# Altium footprint library Project_Oshinoko.PcbLib: 202 footprints (part 4 of 13)
Each footprint in its own frame and in the unit in brackets; x right, y up, seen from the top. Pads: shape width x height; smd on the part's side, far side on the other; paste and mask are expansions set on the pad; w line width, h text height; cw(c..) or ccw(c..) is an arc to the next point about the centre after c.
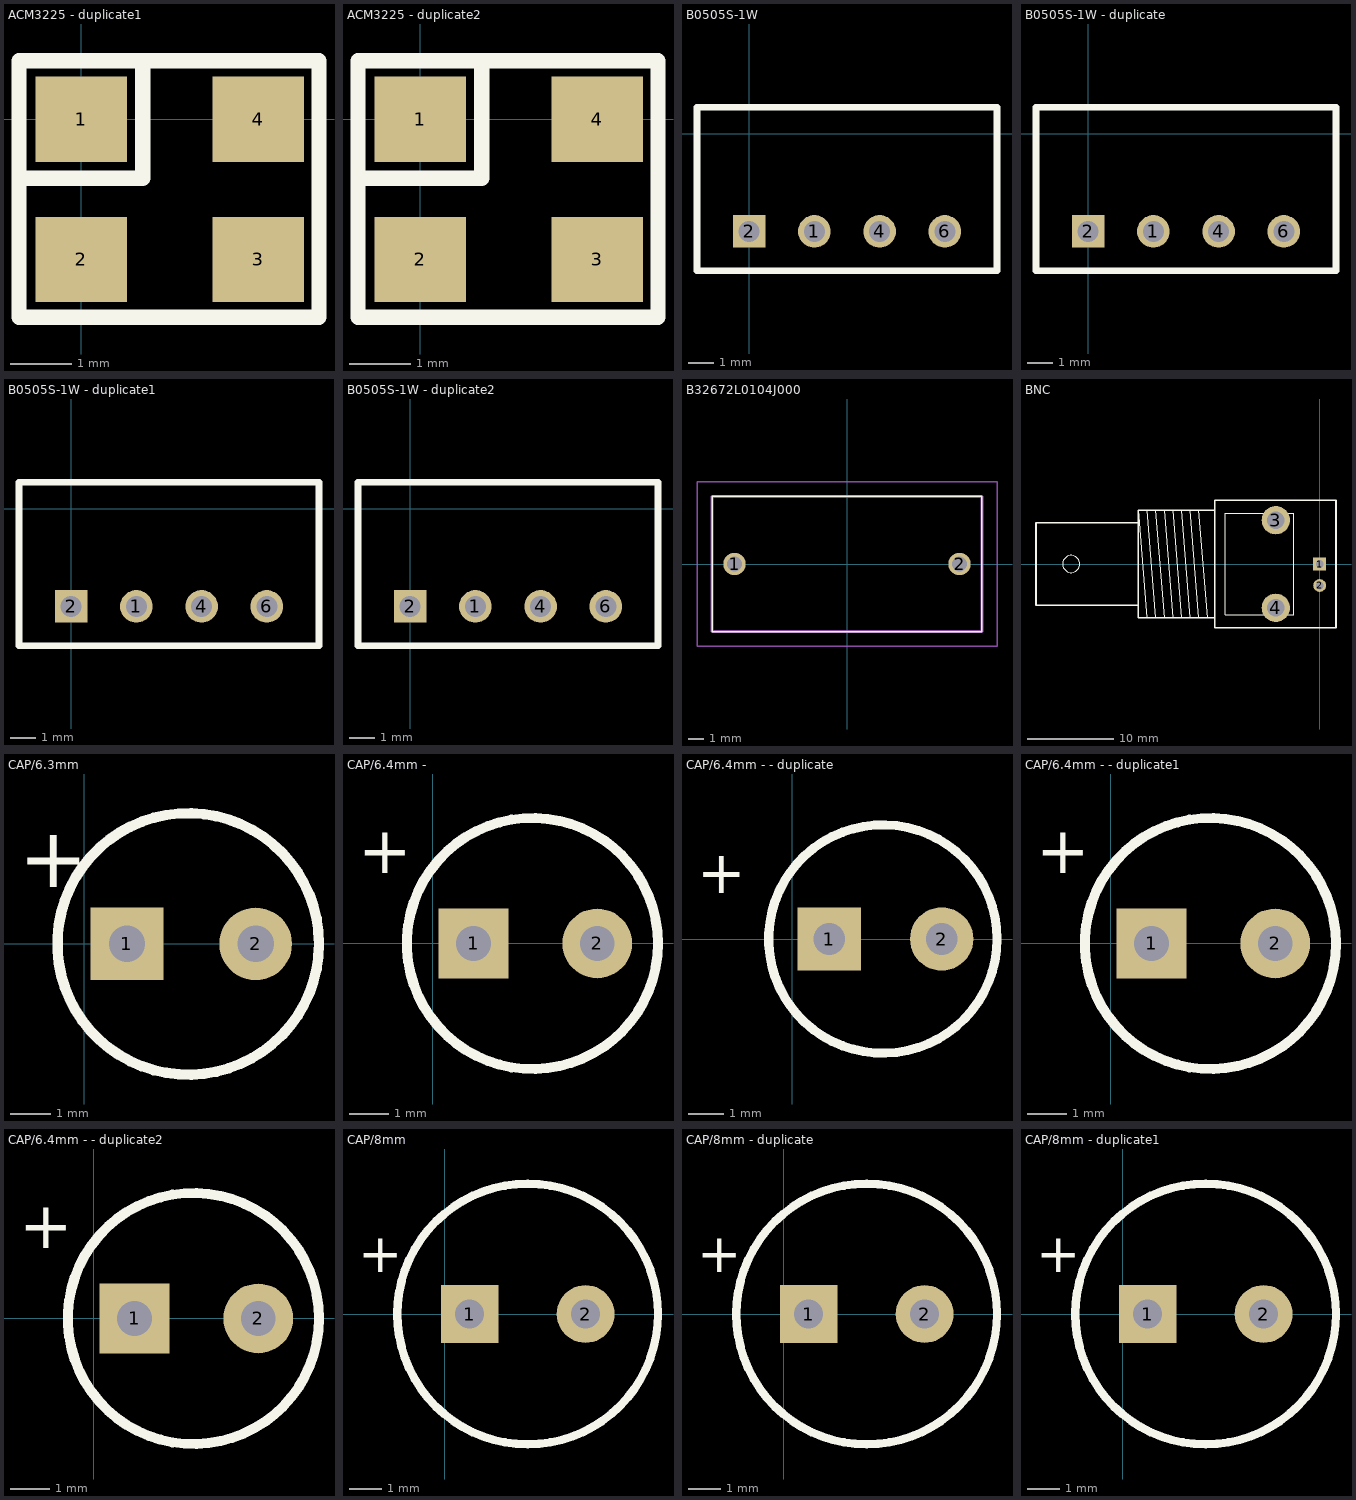
[diagram p3: the footprints below, top view; thin cyan lines are the x and y axes]

## ACM3225 - duplicate1 [mm]
pads (4):
  rect 1.5x1.4 smd: 1(0,0) 2(0,-2.3) 3(2.9,-2.3) 4(2.9,0)
Top Overlay:
  lines w0.254: -1.02,-0.969 1.012,-0.969 1.012,0.961 ; -1.02,-3.25 3.9,-3.25 3.9,0.961 -1.02,0.961 -1.02,-3.25

## ACM3225 - duplicate2 [mm]
pads (4):
  rect 1.5x1.4 smd: 1(0,0) 2(0,-2.3) 3(2.9,-2.3) 4(2.9,0)
Top Overlay:
  lines w0.254: -1.02,-0.969 1.012,-0.969 1.012,0.961 ; -1.02,-3.25 3.9,-3.25 3.9,0.961 -1.02,0.961 -1.02,-3.25

## B0505S-1W [mil]
pads (4):
  round 50 hole 32: 1(100,-150) 4(200,-150) 6(300,-150)
  rect 50x50 hole 32: 2(0,-150)
Top Overlay:
  lines w10: -80,-210 380,-210 380,40 -80,40 -80,-210

## B0505S-1W - duplicate [mil]
pads (4):
  round 50 hole 32: 1(100,-150) 4(200,-150) 6(300,-150)
  rect 50x50 hole 32: 2(0,-150)
Top Overlay:
  lines w10: -80,-210 -80,40 380,40 380,-210 -80,-210

## B0505S-1W - duplicate1 [mil]
pads (4):
  round 50 hole 32: 1(100,-150) 4(200,-150) 6(300,-150)
  rect 50x50 hole 32: 2(0,-150)
Top Overlay:
  lines w10: -80,-210 380,-210 380,40 -80,40 -80,-210

## B0505S-1W - duplicate2 [mil]
pads (4):
  round 50 hole 32: 1(100,-150) 4(200,-150) 6(300,-150)
  rect 50x50 hole 32: 2(0,-150)
Top Overlay:
  lines w10: -80,-210 380,-210 380,40 -80,40 -80,-210

## B32672L0104J000 [mm]
pads (2):
  round 1.5 hole 1: 1(-7.5,0) 2(7.5,0)
Top Overlay:
  lines w0.1: -9,-4.5 -9,4.5 9,4.5 9,-4.5 -9,-4.5
Mechanical 13:
  lines w0.2: -9,-4.5 -9,4.5 9,4.5 9,-4.5 -9,-4.5
Mechanical 15:
  lines w0.1: -10,-5.5 -10,5.5 10,5.5 10,-5.5 -10,-5.5

## BNC [mm]
pads (4):
  rect 1.5x1.5 hole 0.9: 1(0,0)
  round 1.5 hole 0.9: 2(0,-2.5)
  round 3.3 hole 2: 3(-5.1,5.1) 4(-5.1,-5.1)
Top Overlay:
  circle w0.025: c-28.9,0 r1
  lines w0.025: -20.1,-6.25 -21.1,6.25 ; -20.1,6.25 -19.1,-6.25 ; -19.1,6.25 -18.1,-6.25 ; -18.1,6.25 -17.1,-6.25 ; -17.1,6.25 -16.1,-6.25 ; -16.1,6.25 -15.1,-6.25 ; -15.1,6.25 -14.1,-6.25 ; -14.1,6.25 -13.1,-6.25 ; -21.1,-4.8 -33,-4.8 -33,4.8 -21.1,4.8 ; -21.1,-4.8 -21.1,4.8 ; -21.1,-4.8 -21.1,-6.25 -12.2,-6.25 ; -21.1,4.8 -21.1,6.25 ; -21.1,6.25 -12.2,6.25 ; -12.2,-6.25 -12.2,6.25 ; -12.2,-6.25 -12.2,-7.4 1.9,-7.4 1.9,7.4 -12.2,7.4 -12.2,6.25 ; -11,-5.9 -3,-5.9 -3,5.9 -11,5.9 -11,-5.9
  lines w0.2: -21.1,-4.8 -21.1,4.8 ; -21.1,-4.8 -33,-4.8 -33,4.8 -21.1,4.8 ; -21.1,-4.8 -21.1,-6.25 -12.2,-6.25 ; -21.1,4.8 -21.1,6.25 -12.2,6.25 ; -12.2,-6.25 -12.2,6.25 ; -12.2,-6.25 -12.2,-7.4 1.9,-7.4 1.9,7.4 -12.2,7.4 -12.2,6.25

## CAP/6.3mm [mil]
pads (2):
  rect 70x70 hole 35: 1(41,0)
  round 70 hole 35: 2(165,0)
Top Overlay:
  circle w10: c100,0 r125.98
  text "+" at -62.99,35.43 h100

## CAP/6.4mm - [mil]
pads (2):
  rect 70x70 hole 35: 1(41,0)
  round 70 hole 35: 2(165,0)
Top Overlay:
  circle w10: c100,0 r125.98
  text "+" at -75,55 h80

## CAP/6.4mm - - duplicate [mil]
pads (2):
  rect 70x70 hole 35: 1(41,0)
  round 70 hole 35: 2(165,0)
Top Overlay:
  circle w10: c100,0 r125.98
  text "+" at -105,35 h80

## CAP/6.4mm - - duplicate1 [mil]
pads (2):
  rect 70x70 hole 35: 1(41,0)
  round 70 hole 35: 2(165,0)
Top Overlay:
  circle w10: c100,0 r125.98
  text "+" at -75,55 h80

## CAP/6.4mm - - duplicate2 [mil]
pads (2):
  rect 70x70 hole 35: 1(41,0)
  round 70 hole 35: 2(165,0)
Top Overlay:
  circle w10: c100,0 r125.98
  text "+" at -75,55 h80

## CAP/8mm [mil]
pads (2):
  rect 70x70 hole 35: 1(30,0)
  round 70 hole 35: 2(170,0)
Top Overlay:
  circle w10: c100,0 r157.48
  text "+" at -105,35 h80

## CAP/8mm - duplicate [mil]
pads (2):
  rect 70x70 hole 35: 1(30,0)
  round 70 hole 35: 2(170,0)
Top Overlay:
  circle w10: c100,0 r157.48
  text "+" at -105,35 h80

## CAP/8mm - duplicate1 [mil]
pads (2):
  rect 70x70 hole 35: 1(30,0)
  round 70 hole 35: 2(170,0)
Top Overlay:
  circle w10: c100,0 r157.48
  text "+" at -105,35 h80